# Altium schematic symbol library USB3076-30-A.SchLib: 1 symbol
Pins are listed as number, name and electrical type; pins without a type are passive.

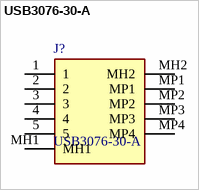
[diagram p0: symbol USB3076-30-A]

## USB3076-30-A
designator J?
USB - micro B USB 2.0 Receptacle Connector 5 Position Surface Mount, Right Angle; Through Hole; Manufacturer_Name: GCT (GLOBAL CONNECTOR TECHNOLOGY); Geometry.Height: 2.86mm; Mouser Part Number: 640-USB3076-30-A; Mouser Price/Stock: https://www.mouser.co.uk/ProductDetail/GCT/USB3076-30-A?qs=KUoIvG%2F9IlZs3NcnVJVajg%3D%3D; Manufacturer_Part_Number: USB3076-30-A; Datasheet Link: https://gct.co/connector/usb3076
footprint USB307630A
pins: 1, 2, 3, 4, 5, MH1, MH2, MP1, MP2, MP3, MP4